# EAGLE library part DCDC_ZUW60515 (library wheat)
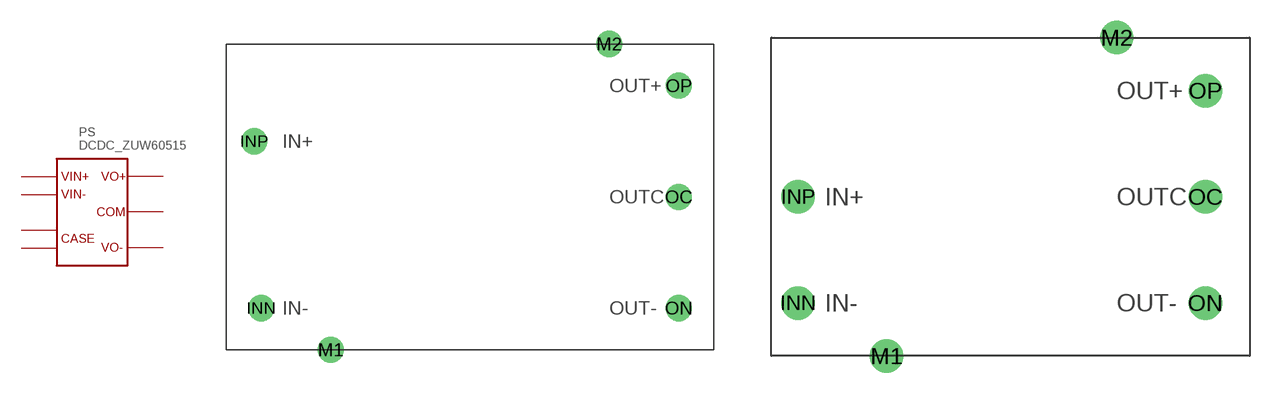
[diagram p165: symbol with the pads of DCDC_ZUW6; footprints DCDC_ZUW6, DCDC_ZUW3]

Designator prefix PS

## DCDC_ZUW60515  [DCDC_ZUW6]
INN  INN
INP  INP
M1  M1
M2  M2
OC  OC
ON  ON
OP  OP

## DCDC_ZUW60515_ZUW3  [DCDC_ZUW3]
Pads as for DCDC_ZUW6

## Footprint DCDC_ZUW6 (pad centres in mm)
drill 1.6: INN -19.05,-10.16; INP -19.685,5.08; M1 -12.7,-13.97; M2 12.7,13.97; OC 19.05,0; ON 19.05,-10.16; OP 19.05,10.16

## Footprint DCDC_ZUW3 (pad centres in mm)
drill 1.6: INN -15.24,-7.62; INP -15.24,0; M1 -8.89,-11.43; M2 7.62,11.43; OC 13.97,0; ON 13.97,-7.62; OP 13.97,7.62